# EAGLE library part T821108A1S100CEU (library T821108A1S100CEU)
HEADER, VERTICAL, 2.54MM, 8WAY Amphenol T821 Series, 2.54mm Pitch 8 Way 2 Row Straight PCB Header, Solder Termination, 3A Source: Datasheet <http://uk.rs-online.com/web/p/products/1702738>
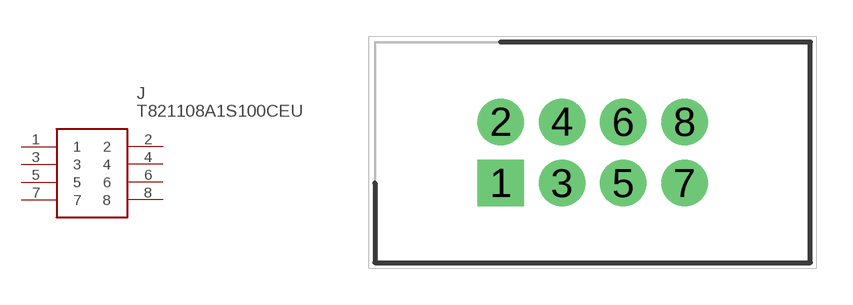
[diagram p0: symbol with the pads of HDRV8W64P254_2X4_1778X895X915P; footprint HDRV8W64P254_2X4_1778X895X915P]

Designator prefix J

## T821108A1S100CEU (DESCRIPTION: HEADER, VERTICAL, 2.54MM, 8WAY Amphenol T821 Series, 2.54mm Pitch 8 Way 2 Row Straight PCB Header, Solder Termination, 3A; HEIGHT: 9.15mm; MANUFACTURER_NAME: Amphenol; MANUFACTURER_PART_NUMBER: T821108A1S100CEU; RS_PART_NUMBER: 1702738)  [HDRV8W64P254_2X4_1778X895X915P]
1  1
2  2
3  3
4  4
5  5
6  6
7  7
8  8

## Footprint HDRV8W64P254_2X4_1778X895X915P (pad centres in mm)
T821108A1S100CEU
drill 1 pad 1.93 square: 1 0,0
drill 1 pad 1.93: 2 0,2.54; 3 2.54,0; 4 2.54,2.54; 5 5.08,0; 6 5.08,2.54; 7 7.62,0; 8 7.62,2.54